# EAGLE library part CC1101 (library pel_misc)
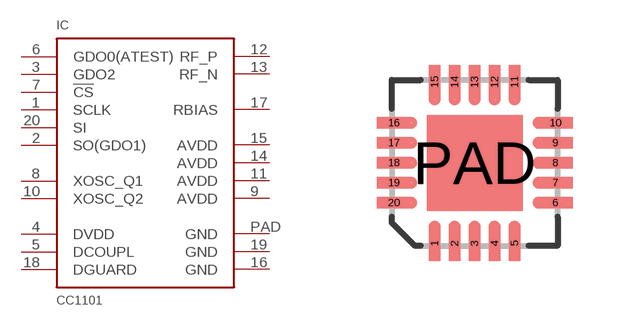
[diagram p4: symbol with the pads of PVQFN-20; footprint PVQFN-20]

Designator prefix IC

## CC1101  [PVQFN-20]
1  SCLK
2  SO(GDO1)
3  GDO2
4  DVDD
5  DCOUPL
6  GDO0(ATEST)
7  !CS
8  XOSC_Q1
9  AVDD
10  XOSC_Q2
11  AVDD
12  RF_P
13  RF_N
14  AVDD
15  AVDD
16  GND
17  RBIAS
18  DGUARD
19  GND
20  SI
PAD  GND

## Footprint PVQFN-20 (pad centres in mm)
smd 0.28 x 0.86: 1 -1,-2.02; 2 -0.5,-2.02; 3 0,-2.02; 4 0.5,-2.02; 5 1,-2.02; 11 1,2.02; 12 0.5,2.02; 13 0,2.02; 14 -0.5,2.02; 15 -1,2.02
smd 0.86 x 0.28: 6 2.02,-1; 7 2.02,-0.5; 8 2.02,0; 9 2.02,0.5; 10 2.02,1; 16 -2.02,1; 17 -2.02,0.5; 18 -2.02,0; 19 -2.02,-0.5; 20 -2.02,-1
smd 2.4 x 2.4: PAD 0,0